# Altium schematic symbol library APTF1616LSEKJ3ZGKQBC.SchLib: 1 symbol
Pins are listed as number, name and electrical type; pins without a type are passive.

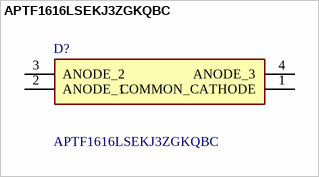
[diagram p0: symbol APTF1616LSEKJ3ZGKQBC]

## APTF1616LSEKJ3ZGKQBC
designator D?
Red, Green, Blue (RGB) 625nm Red, 525nm Green, 465nm Blue LED Indication - Discrete 1.8V Red, 2.7V Green, 2.7V Blue 0606 (1616 Metric); Manufacturer_Name: Kingbright; Geometry.Height: 0.7mm; Mouser Part Number: 604-APTF1616LSEKJ3ZG; Mouser Price/Stock: https://www.mouser.co.uk/ProductDetail/Kingbright/APTF1616LSEKJ3ZGKQBC?qs=ZqXcJfGlKsilY2K6EwZ11Q%3D%3D; Manufacturer_Part_Number: APTF1616LSEKJ3ZGKQBC; Datasheet Link: https://componentsearchengine.com/Datasheets/1/APTF1616LSEKJ3ZGKQBC.pdf
footprint APTF1616LSEKJ3ZGKQBC
pins: 1 COMMON_CATHODE, 2 ANODE_1, 3 ANODE_2, 4 ANODE_3